# Altium footprint library Buttons & Switches.PcbLib: 22 footprints (part 2 of 2)
Each footprint in its own frame and in the unit in brackets; x right, y up, seen from the top. Pads: shape width x height; smd on the part's side, far side on the other; paste and mask are expansions set on the pad; w line width, h text height; cw(c..) or ccw(c..) is an arc to the next point about the centre after c.
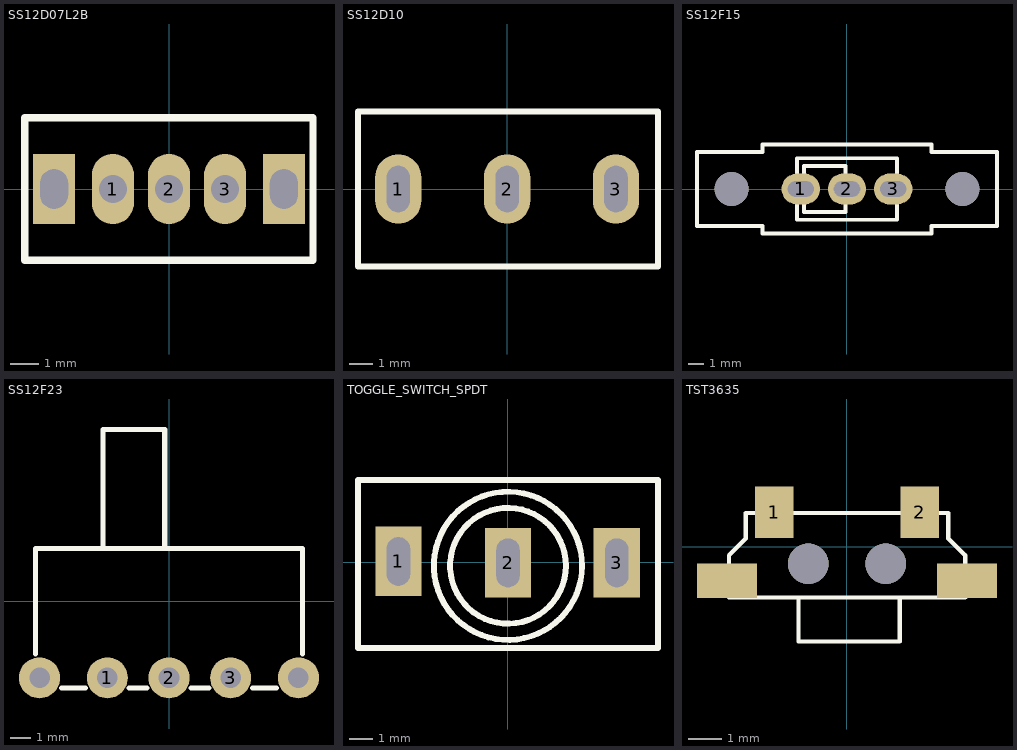
[diagram p1: the footprints below, top view; thin cyan lines are the x and y axes]

## SS12D07L2B [mm]
pads (5):
  oval 1.5x2.5 hole 1: 1(-2,0) 2(0,0) 3(2,0)
  rect 1.5x2.5 hole 1 slot 1.4 at 90 deg: ""(-4.1,0) ""(4.1,0)
Top Overlay:
  lines w0.254: -5.145,-2.54 -5.145,2.54 5.142,2.54 5.142,-2.54 -5.145,-2.54
3D body "chaveSS12D07L2B.stp": height 6.7, standoff -2.8, extent -4.3,-2.25 4.3,2.25

## SS12D10 [mm]
pads (3):
  oval 2x3 hole 1 slot 2 at 90 deg: 1(-4.7,0) 2(0,0) 3(4.7,0)
Top Overlay:
  lines w0.254: -6.439,-3.35 6.515,-3.35 6.515,3.35 -6.439,3.35 -6.439,-3.35
3D body "ss12d10.stp": height 18.4, standoff -4.9, extent -6.5,-3.4 6.5,3.4

## SS12F15 [mm]
pads (5):
  oval 2.5x2 hole 1 slot 1.7 at 0 deg: 1(-3,0) 2(0,0) 3(3,0)
  round 2.2 hole 2.2: ""(-7.5,0) ""(7.5,0)
Top Overlay:
  lines w0.254: 5.5,2.9 5.5,2.4 9.75,2.4 9.75,-2.4 ; 5.5,2.9 -5.5,2.9 -5.5,2.4 -9.75,2.4 -9.75,-2.4 -5.5,-2.4 -5.5,-2.9 5.5,-2.9 5.5,-2.4 9.751,-2.4 ; -3.25,-2 -3.25,2 3.25,2 3.25,-2 -3.25,-2 ; -2.8,-1.5 -2.8,1.5 -0.1,1.5 -0.1,-1.5 -2.8,-1.5
3D body "SS12F15.stp": height 11, standoff -2.34, extent -9.777,-2.819 9.723,2.981

## SS12F23 [mm]
pads (5):
  round 2 hole 1: 1(-3,-3.732) 2(0,-3.732) 3(3,-3.732) ""(-6.3,-3.732) ""(6.3,-3.732)
Top Overlay:
  lines w0.254: -6.5,-2.568 -6.5,2.568 6.5,2.568 6.5,-2.568 ; -5.23,-4.232 -4.07,-4.232 ; -3.21,2.568 -3.21,8.348 -0.21,8.348 -0.21,2.568 ; -1.93,-4.232 -1.07,-4.232 ; 1.07,-4.232 1.93,-4.232 ; 4.07,-4.232 5.23,-4.232
3D body "SS12F23.STEP": height 5.75, standoff -3.35, extent -6.456,-4.529 6.544,8.371

## TOGGLE_SWITCH_SPDT [mm]
pads (3):
  rect 2x3 hole 1 slot 2.1 at 90 deg: 1(-4.715,0.031) 2(0.016,-0.031) 3(4.715,-0.031)
Top Overlay:
  circle w0.254: c0.016,-0.157 r2.5
  circle w0.254: c0.016,-0.157 r3.2
  lines w0.254: -6.461,-3.714 6.493,-3.714 6.493,3.556 -6.461,3.556 -6.461,-3.714
3D body "TOGGLE_SWITCH.stp": height 30.32, standoff -3.41, extent -6.486,-6.025 6.518,5.962

## TST3635 [mil]
pads (6):
  rect 45x60 smd: 1(-85,40) 2(85,40)
  rect 70x40 smd: ""(-140,-40) ""(140,-40)
  round 47.24 hole 47.24: ""(-45.28,-20) ""(45.27,-20)
Top Overlay:
  lines w5: -56.7,-61 -56.7,-110.67 61.41,-110.67 61.41,-61 ; -137.79,-59.37 -39.37,-59.37 39.37,-59.37 137.8,-59.37 137.8,-10.16 118.11,9.53 118.11,39.05 -118.11,39.05 -118.11,9.53 -137.79,-10.16 -137.79,-59.37
3D body "ts-1188a-b-b.stp": height 137.8, standoff -129.95, extent -153.83,-109.96 153.26,59.33